# Altium footprint library WeatherStation.PcbLib: 9 footprints
Each footprint in its own frame and in the unit in brackets; x right, y up, seen from the top. Pads: shape width x height; smd on the part's side, far side on the other; paste and mask are expansions set on the pad; w line width, h text height; cw(c..) or ccw(c..) is an arc to the next point about the centre after c.
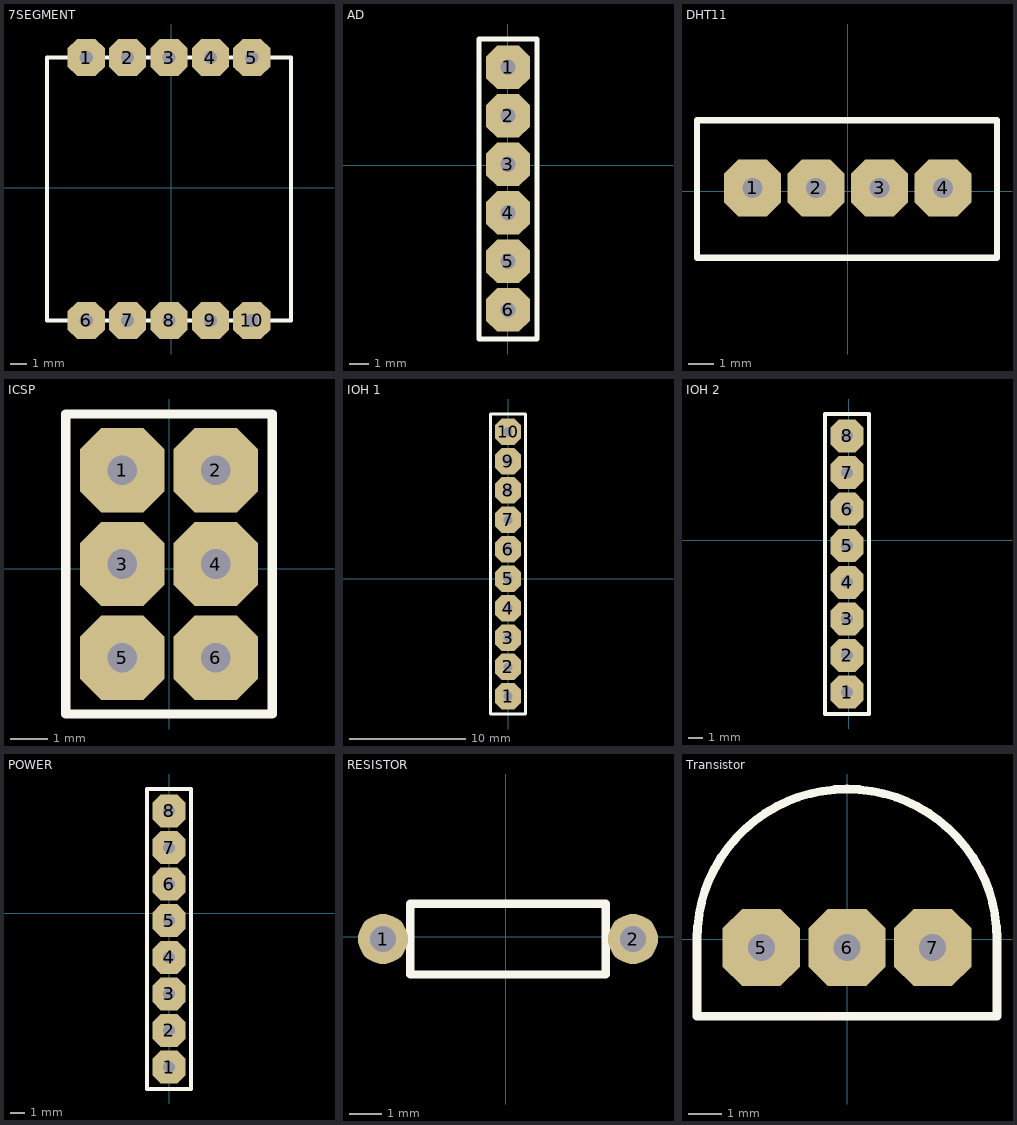
[diagram p0: the footprints below, top view; thin cyan lines are the x and y axes]

## 7SEGMENT [mil]
pads (10):
  oct 90x90 hole 31.5: 1(-205,315) 2(-105,315) 3(-5,315) 4(95,315) 5(195,315) 6(-205,-320) 7(-105,-320) 8(-5,-320) 9(95,-320) 10(195,-320)
Top Overlay:
  lines w10: -300,-320 290,-320 290,315 -300,315 -300,-320

## AD [mil]
pads (6):
  oct 90x90 hole 31.5: 1(0.33,201.57) 2(0.33,101.57) 3(0.33,1.57) 4(0.33,-98.43) 5(0.33,-198.43) 6(0.33,-298.43)
Top Overlay:
  lines w10: -59.67,-358.43 -34.67,-358.43 25.33,-358.43 60.33,-358.43 ; -59.67,-355 -59.67,260 60.33,260 60.33,-355

## DHT11 [mil]
pads (4):
  oct 90x90 hole 31.5: 1(-150,5) 2(-50,5) 3(50,5) 4(150,5)
Top Overlay:
  lines w10: -237.44,-105 235,-105 235,111.54 -237.44,111.54 -237.44,-105

## ICSP [mil]
pads (6):
  oct 90x90 hole 31.5: 1(-50,105) 2(50,105) 3(-50,5) 4(50,5) 5(-50,-95) 6(50,-95)
Top Overlay:
  lines w10: -110,-155 -70,-155 -15,-155 27.5,-155 81.35,-155 110,-155 110,165 -110,165 -110,-155

## IOH 1 [mil]
pads (10):
  oct 90x90 hole 31.5: 1(0,-400) 2(0,-300) 3(0,-200) 4(0,-100) 5(0,0) 6(0,100) 7(0,200) 8(0,300) 9(0,400) 10(0,500)
Top Overlay:
  lines w10: -60,-460 -60,560 60,560 60,-460 -60,-460

## IOH 2 [mil]
pads (8):
  oct 90x90 hole 31.5: 1(-5,-415) 2(-5,-315) 3(-5,-215) 4(-5,-115) 5(-5,-15) 6(-5,85) 7(-5,185) 8(-5,285)
Top Overlay:
  lines w10: -65,-475 55,-475 55,345 -65,345 -65,-475

## POWER [mil]
pads (8):
  oct 90x90 hole 31.5: 1(0,-420) 2(0,-320) 3(0,-220) 4(0,-120) 5(0,-20) 6(0,80) 7(0,180) 8(0,280)
Top Overlay:
  lines w10: -60,-480 -60,340 60,340 60,-480 -60,-480

## RESISTOR [mil]
pads (2):
  round 60 hole 31.5: 1(-147.5,-2.5) 2(152.5,-2.5)
Top Overlay:
  lines w10: -115,-45 -115,40 120,40 120,-45 -115,-45

## Transistor [mil]
pads (3):
  oct 90x90 hole 31.5: 5(-100,-10) 6(0,-10) 7(100,-10)
Top Overlay:
  lines w10: -175,-90 -175,0 cw(c0,0) 175,0 175,-90 -175,-90